# EAGLE library part ISLA112P50 (library IC_Data-Conversion)
12-Bit, 500MSPS A/D Converter Datasheet <https://www.renesas.com/us/en/www/doc/datasheet/isla112p50.pdf>
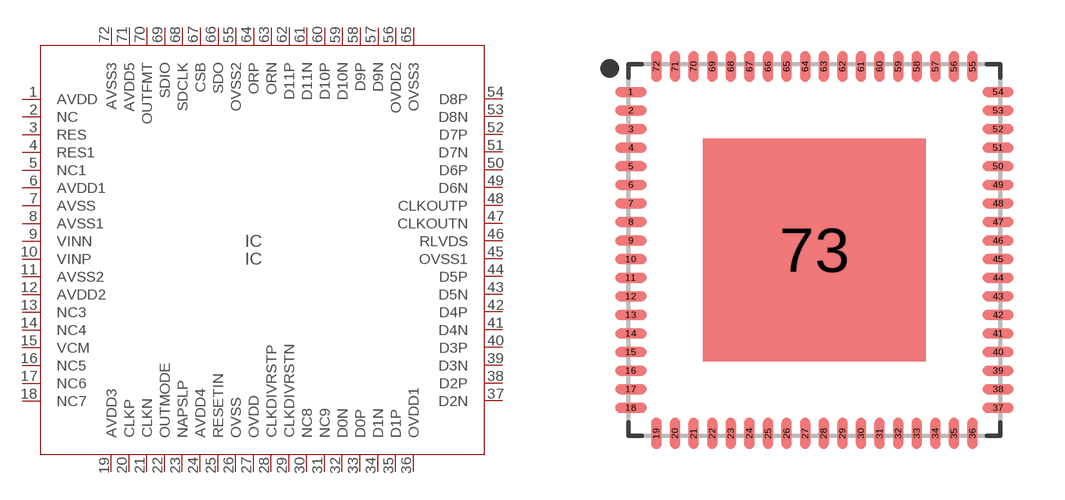
[diagram p2: symbol with the pads of QFN50P1000X1000X100-73T600; footprint QFN50P1000X1000X100-73T600]

Designator prefix IC

## ISLA112P50_QFN (CATEGORY: IC_Data-Conversion; DESCRIPTION: IC ADC 12BIT SAR 72QFN; MANUFACTURER: Renesas Electronics America Inc; MPN: ISLA112P50IRZ; OPERATING_TEMP: -40to +85°C; PART_STATUS: Active; ROHS_COMPLIANT: RoHS3 Compliant; SUB_CATEGORY: A/D Converter)  [QFN50P1000X1000X100-73T600]
1  AVDD  pwr
2  NC  nc
3  RES
4  RES1
5  NC1  nc
6  AVDD1  pwr
7  AVSS  pwr
8  AVSS1  pwr
9  VINN  in
10  VINP  in
11  AVSS2  pwr
12  AVDD2  pwr
13  NC3  nc
14  NC4  nc
15  VCM  out
16  NC5  nc
17  NC6  nc
18  NC7  nc
19  AVDD3  pwr
20  CLKP  in
21  CLKN  in
22  OUTMODE  out
23  NAPSLP
24  AVDD4  pwr
25  RESETIN  in
26  OVSS  pwr
27  OVDD  pwr
28  CLKDIVRSTP
29  CLKDIVRSTN
30  NC8  nc
31  NC9  nc
32  D0N  out
33  D0P  out
34  D1N  out
35  D1P  out
36  OVDD1  pwr
37  D2N  out
38  D2P  out
39  D3N  out
40  D3P  out
41  D4N  out
42  D4P  out
43  D5N  out
44  D5P  out
45  OVSS1  pwr
46  RLVDS
47  CLKOUTN  out
48  CLKOUTP  out
49  D6N  out
50  D6P  out
51  D7N  out
52  D7P  out
53  D8N  out
54  D8P  out
55  OVSS2  pwr
56  OVDD2  pwr
57  D9N  out
58  D9P  out
59  D10N  out
60  D10P  out
61  D11N  out
62  D11P  out
63  ORN
64  ORP
65  OVSS3  pwr
66  SDO  out
67  CSB  in
68  SDCLK
69  SDIO
70  OUTFMT  out
71  AVDD5
72  AVSS3

## Footprint QFN50P1000X1000X100-73T600 (pad centres in mm)
72-QFN, 0.50 mm pitch, 10.00 X 10.00 X 1.00 mm body, 6.00 X 6.00 mm thermal pad 72-pin QFN package with 0.50 mm pitch with body size 10.00 X 10.00 X 1.00 mm and thermal pad size 6.00 X 6.00 mm
smd 0.837 x 0.264: 1 -4.937,4.25; 2 -4.937,3.75; 3 -4.937,3.25; 4 -4.937,2.75; 5 -4.937,2.25; 6 -4.937,1.75; 7 -4.937,1.25; 8 -4.937,0.75; 9 -4.937,0.25; 10 -4.937,-0.25; 11 -4.937,-0.75; 12 -4.937,-1.25; 13 -4.937,-1.75; 14 -4.937,-2.25; 15 -4.937,-2.75; 16 -4.937,-3.25; 17 -4.937,-3.75; 18 -4.937,-4.25; 37 4.937,-4.25; 38 4.937,-3.75; 39 4.937,-3.25; 40 4.937,-2.75; 41 4.937,-2.25; 42 4.937,-1.75; 43 4.937,-1.25; 44 4.937,-0.75; 45 4.937,-0.25; 46 4.937,0.25; 47 4.937,0.75; 48 4.937,1.25; 49 4.937,1.75; 50 4.937,2.25; 51 4.937,2.75; 52 4.937,3.25; 53 4.937,3.75; 54 4.937,4.25
smd 0.264 x 0.837: 19 -4.25,-4.937; 20 -3.75,-4.937; 21 -3.25,-4.937; 22 -2.75,-4.937; 23 -2.25,-4.937; 24 -1.75,-4.937; 25 -1.25,-4.937; 26 -0.75,-4.937; 27 -0.25,-4.937; 28 0.25,-4.937; 29 0.75,-4.937; 30 1.25,-4.937; 31 1.75,-4.937; 32 2.25,-4.937; 33 2.75,-4.937; 34 3.25,-4.937; 35 3.75,-4.937; 36 4.25,-4.937; 55 4.25,4.937; 56 3.75,4.937; 57 3.25,4.937; 58 2.75,4.937; 59 2.25,4.937; 60 1.75,4.937; 61 1.25,4.937; 62 0.75,4.937; 63 0.25,4.937; 64 -0.25,4.937; 65 -0.75,4.937; 66 -1.25,4.937; 67 -1.75,4.937; 68 -2.25,4.937; 69 -2.75,4.937; 70 -3.25,4.937; 71 -3.75,4.937; 72 -4.25,4.937
smd 6 x 6: 73 0,0